# Altium footprint library Filters.PcbLib: 4 footprints
Each footprint in its own frame and in the unit in brackets; x right, y up, seen from the top. Pads: shape width x height; smd on the part's side, far side on the other; paste and mask are expansions set on the pad; w line width, h text height; cw(c..) or ccw(c..) is an arc to the next point about the centre after c.
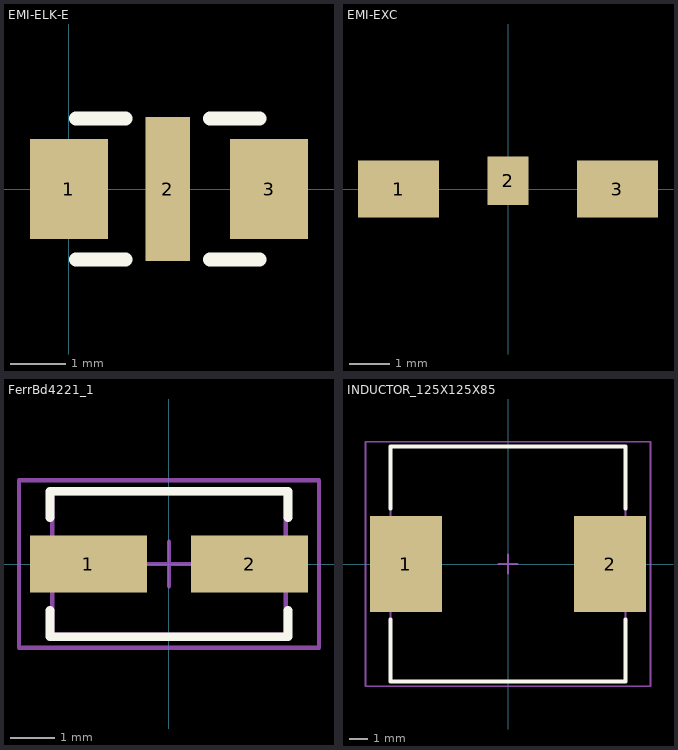
[diagram p0: the footprints below, top view; thin cyan lines are the x and y axes]

## EMI-ELK-E [mm] "ELK-E Digital Noise Filter"
height 1.8
pads (3):
  rect 1.4x1.8 smd: 1(0,0) 3(3.6,0)
  rect 0.8x2.6 smd: 2(1.778,0)
Top Overlay:
  lines w0.254: 0.127,-1.27 1.016,-1.27 ; 0.127,1.27 1.016,1.27 ; 2.54,-1.27 3.429,-1.27 ; 2.54,1.27 3.429,1.27
3D body: height 2.2, standoff 0, extent 0.254,-0.889 3.429,0.889

## EMI-EXC [mm]
height 20
pads (3):
  rect 2x1.4 smd: 1(-2.7,0) 3(2.7,0)
  rect 1x1.2 smd: 2(0,0.2)
3D body: height 1, standoff 0, extent 2.525,-1.125 3.2,1.025
3D body: height 1, standoff 0, extent -3.175,-1.125 -2.5,1.025
3D body: height 2.7, standoff 0, extent -3,-0.95 3,0.875

## FerrBd4221_1 [mm] "Molded Inductor, 2-Leads, Body 4.8x3.1mm, IPC Medium Density"
height 3.25
pads (2):
  rect 2.65x1.3 smd: 1(-1.825,0) 2(1.825,0)
Top Overlay:
  lines w0.2: -2.7,-1.05 -2.7,-1.65 2.7,-1.65 2.7,-1.05 ; -2.7,1.05 -2.7,1.65 2.7,1.65 2.7,1.05
Mechanical 13:
  lines w0.1: -2.65,-1.6 -2.65,1.6 2.65,1.6 2.65,-1.6 -2.65,-1.6
Mechanical 15:
  lines w0.1: -0.5,0 0.5,0 ; 0,-0.5 0,0.5 ; -3.4,-1.9 -3.4,1.9 3.4,1.9 3.4,-1.9 -3.4,-1.9
3D body: height 3.25, standoff 0, extent -2.65,-1.6 2.65,1.6

## INDUCTOR_125X125X85 [mm] "Molded Inductor, 2-Leads, Body 12.5x12.5mm, IPC Medium Density"
height 8.5
pads (2):
  rect 3.85x5.1 smd: 1(-5.425,0) 2(5.425,0)
Top Overlay:
  lines w0.2: -6.25,-2.95 -6.25,-6.25 6.25,-6.25 6.25,-2.95 ; -6.25,2.95 -6.25,6.25 6.25,6.25 6.25,2.95
Mechanical 13:
  lines w0.1: -6.25,-6.25 6.25,-6.25 6.25,6.25 -6.25,6.25 -6.25,-6.25
Mechanical 15:
  lines w0.1: -0.5,0 0.5,0 ; 0,-0.5 0,0.5 ; -7.575,-6.5 7.575,-6.5 7.575,6.5 -7.575,6.5 -7.575,-6.5
3D body: height 8.5, standoff 0, extent -6.25,-6.25 6.25,6.25